# EAGLE library part 691312510018 (library Wurth_Connectors_WR-TBL Pluggable Connector)
WR-TBL Serie 312 - 5.08 mm Open Horizontal PCB Header KIND PROPERTIES Pitch 5.08 mm MATERIAL PROPERTIES Insulator Material PA66 Insulator Flammability Rating UL94 V-0 Contact Material Brass Contact Plating Tin GENERAL INFORMATION Operating Temperature -40 up to +105 °C Compliance RoHS ELECTRICAL PROPERTIES IR cULus 20 A IR VDE 20 A Working Voltage [cULus] 300 V (AC) Working Voltage [VDE] 300 V (AC) Withstanding Voltage [cULus] 1600 V (AC) Withstanding Voltage [VDE] 2500 V (AC) Contact Resistance [cULus] 20 mΩ Contact Resistance [VDE] 20 mΩ CERTIFICATION cULus Approval E315414 VDE Approval 40023195 <https://www.we-online.com/catalog/media/o33262v209%20Family_WR-TBL_6913125100xx.jpg> Details see: https://www.we-online.com/catalog/en/TBL_5_08_312_OPEN_HORIZONTAL_PCB_HEADER_6913125100XX/ Updated by Ella Wu 2019-12-26 2022(C) Wurth Elektronik
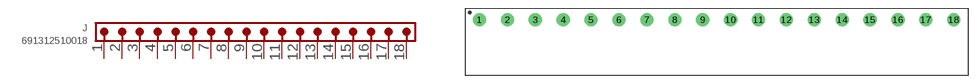
[diagram p346: symbol with the pads of 691312510018; footprint 691312510018]

Designator prefix J

## 691312510018 (DATASHEET-URL: https://www.we-online.com/redexpert/spec/691312510018?ae; IR-UL: 20A; IR-VDE: 20A; MOUNT: THT; PART-NUMBER: 691312510018; PINS: 18; PITCH: 5.08mm; TYPE: Horizontal; VALUE: 691312510018; WORKING-VOLTAGE-UL: 300V (AC); WORKING-VOLTAGE-VDE: 300V (AC))  [691312510018]
1  1  pas
2  2  pas
3  3  pas
4  4  pas
5  5  pas
6  6  pas
7  7  pas
8  8  pas
9  9  pas
10  10  pas
11  11  pas
12  12  pas
13  13  pas
14  14  pas
15  15  pas
16  16  pas
17  17  pas
18  18  pas

## Footprint 691312510018 (pad centres in mm)
WR-TBL Serie 312 - 5.08 mm Open Horizontal PCB Header Max Height = 8.5mm , Pitch 5.08mm , 18pins
drill 1.6: 1 -43.18,0; 2 -38.1,0; 3 -33.02,0; 4 -27.94,0; 5 -22.86,0; 6 -17.78,0; 7 -12.7,0; 8 -7.62,0; 9 -2.54,0; 10 2.54,0; 11 7.62,0; 12 12.7,0; 13 17.78,0; 14 22.86,0; 15 27.94,0; 16 33.02,0; 17 38.1,0; 18 43.18,0